# EAGLE library part CMUTOSC_8 (library ck)
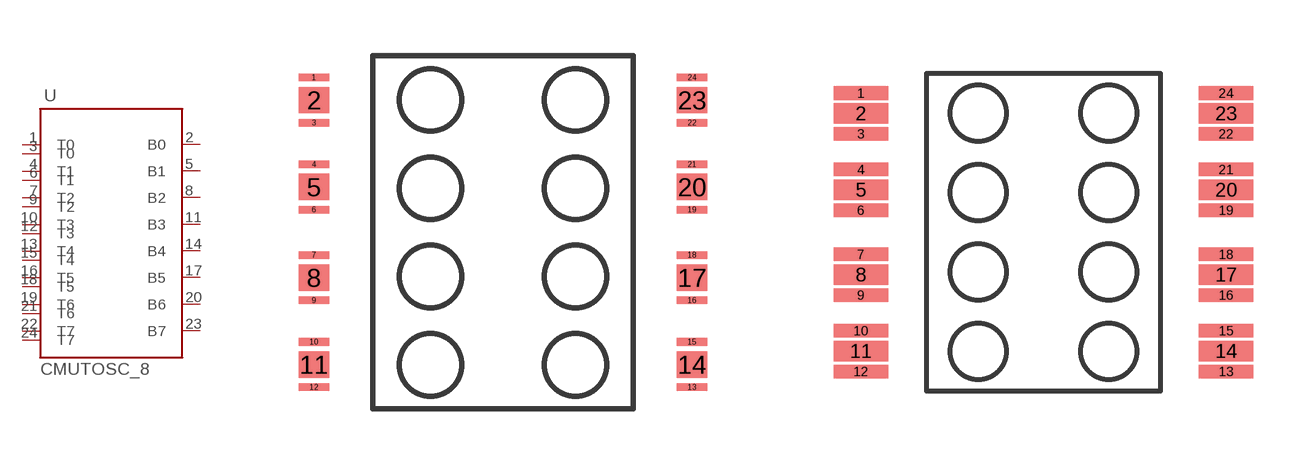
[diagram p4: symbol with the pads of CMUTOSC_8; footprints CMUTOSC_8, CMUT_OSC_8_PROBE]

Designator prefix U

## CMUTOSC_8NORM  [CMUTOSC_8]
1  T0
2  B0
3  T0
4  T1
5  B1
6  T1
7  T2
8  B2
9  T2
10  T3
11  B3
12  T3
13  T4
14  B4
15  T4
16  T5
17  B5
18  T5
19  T6
20  B6
21  T6
22  T7
23  B7
24  T7

## CMUTOSC_8PROBE  [CMUT_OSC_8_PROBE]
1  T4
2  B4
3  T4
4  T5
5  B5
6  T5
7  T6
8  B6
9  T6
10  T7
11  B7
12  T7
13  T0
14  B0
15  T0
16  T1
17  B1
18  T1
19  T2
20  B2
21  T2
22  T3
23  B3
24  T3

## Footprint CMUTOSC_8 (pad centres in mm)
smd 0.813 x 0.203: 1 -5.08,4.166; 3 -5.08,2.946; 4 -5.08,1.829; 6 -5.08,0.61; 7 -5.08,-0.61; 9 -5.08,-1.829; 10 -5.08,-2.946; 12 -5.08,-4.166; 13 5.08,-4.166; 15 5.08,-2.946; 16 5.08,-1.829; 18 5.08,-0.61; 19 5.08,0.61; 21 5.08,1.829; 22 5.08,2.946; 24 5.08,4.166
smd 0.813 x 0.711: 2 -5.08,3.556; 5 -5.08,1.219; 8 -5.08,-1.219; 11 -5.08,-3.556; 14 5.08,-3.556; 17 5.08,-1.219; 20 5.08,1.219; 23 5.08,3.556

## Footprint CMUT_OSC_8_PROBE (pad centres in mm)
smd 1.626 x 0.406: 1 -0.381,2.896; 3 -0.381,1.676; 4 -0.381,0.61; 6 -0.381,-0.61; 7 -0.381,-1.93; 9 -0.381,-3.15; 10 -0.381,-4.216; 12 -0.381,-5.436; 13 10.541,-5.436; 15 10.541,-4.216; 16 10.541,-3.15; 18 10.541,-1.93; 19 10.541,-0.61; 21 10.541,0.61; 22 10.541,1.676; 24 10.541,2.896
smd 1.626 x 0.61: 2 -0.381,2.286; 5 -0.381,0; 8 -0.381,-2.54; 11 -0.381,-4.826; 14 10.541,-4.826; 17 10.541,-2.54; 20 10.541,0; 23 10.541,2.286